# Altium footprint library tps54332_12v_to_7v.PcbLib: 8 footprints
Each footprint in its own frame and in the unit in brackets; x right, y up, seen from the top. Pads: shape width x height; smd on the part's side, far side on the other; paste and mask are expansions set on the pad; w line width, h text height; cw(c..) or ccw(c..) is an arc to the next point about the centre after c.
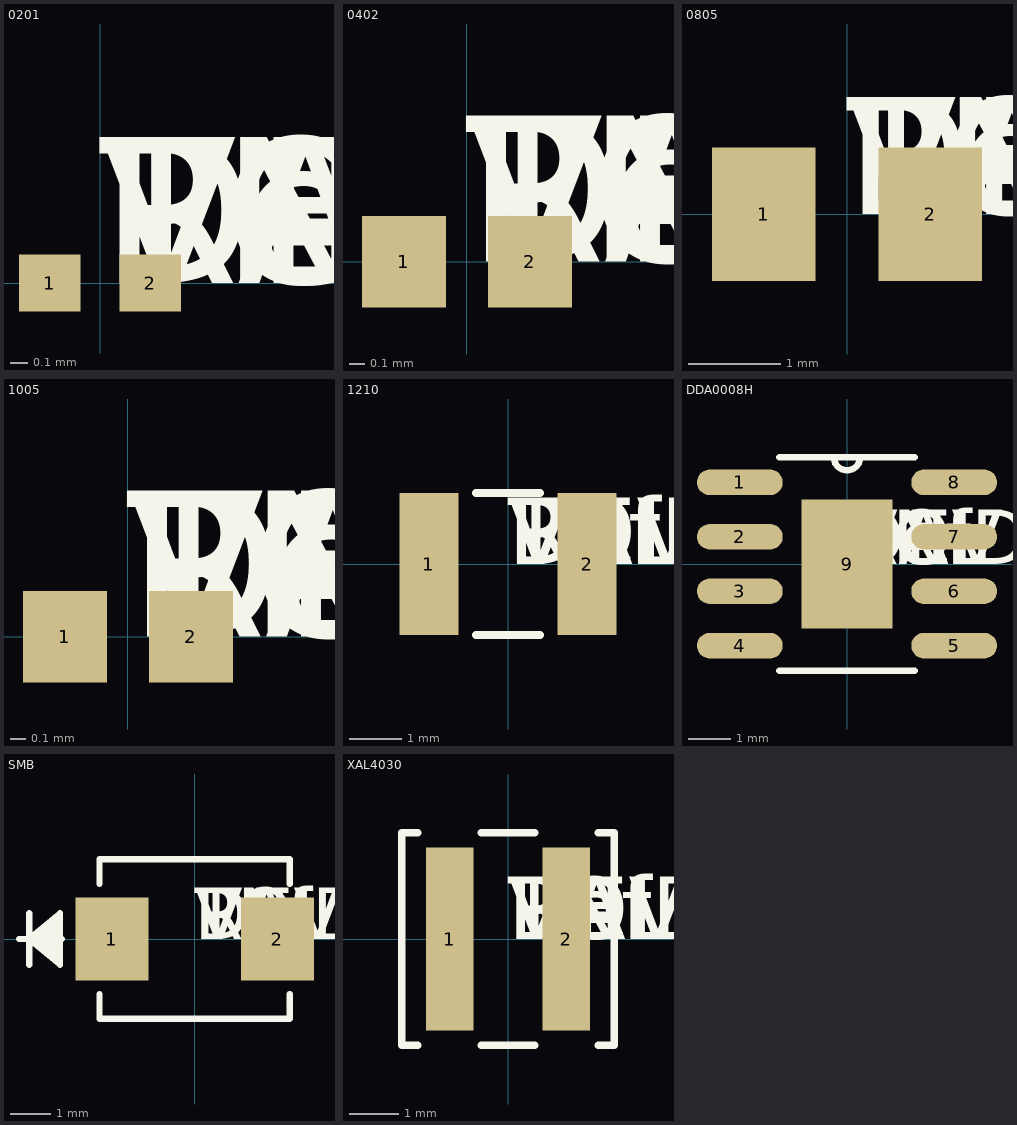
[diagram p0: the footprints below, top view; thin cyan lines are the x and y axes]

## 0201 [mil]
pads (2):
  rect 14x13 smd: 1(-11.5,0) 2(11.5,0)
Top Overlay:
  text "RefDes" at 0,0 h50
  text "DEV" at 0,0 h50
  text "PN" at 0,0 h50
  text "DEV" at 0,0 h50
  text "VAL" at 0,0 h50
  text "TOL" at 0,0 h50

## 0402 [mil]
pads (2):
  rect 22x24 smd: 1(-16.5,0) 2(16.5,0)
Top Overlay:
  text "RefDes" at 0,0 h50
  text "DEV" at 0,0 h50
  text "PN" at 0,0 h50
  text "DEV" at 0,0 h50
  text "VAL" at 0,0 h50
  text "TOL" at 0,0 h50

## 0805 [mil]
pads (2):
  rect 44x57 smd: 1(-35.5,0) 2(35.5,0)
Top Overlay:
  text "RefDes" at 0,0 h50
  text "DEV" at 0,0 h50
  text "PN" at 0,0 h50
  text "DEV" at 0,0 h50
  text "VAL" at 0,0 h50
  text "TOL" at 0,0 h50

## 1005 [mil]
pads (2):
  rect 22x24 smd: 1(-16.5,0) 2(16.5,0)
Top Overlay:
  text "RefDes" at 0,0 h50
  text "DEV" at 0,0 h50
  text "PN" at 0,0 h50
  text "DEV" at 0,0 h50
  text "VAL" at 0,0 h50
  text "TOL" at 0,0 h50

## 1210 [mil]
pads (2):
  rect 44x106 smd: 1(-59,0) 2(59,0)
Top Overlay:
  lines w6: -23.9,-53 23.9,-53 ; -23.9,53 23.9,53
  text "RefDes" at 0,0 h50
  text "DEV" at 0,0 h50
  text "PN" at 0,0 h50
  text "DEV" at 0,0 h50
  text "VAL" at 0,0 h50
  text "TOL" at 0,0 h50

## DDA0008H [mm]
pads (9):
  oval 2x0.6 smd paste-0.102 mask+0.051: 1(-2.5,1.905) 2(-2.5,0.635) 3(-2.5,-0.635) 4(-2.5,-1.905) 5(2.5,-1.905) 6(2.5,-0.635) 7(2.5,0.635) 8(2.5,1.905)
  rect 2.13x3 smd paste-0.102 mask+0.051: 9(0,0)
Top Overlay:
  lines w0.152: -1.577,-2.489 1.577,-2.489 ; -1.577,2.489 1.577,2.489 ; -0.305,2.489 ccw(c0,2.489) 0.305,2.489
  text "RefDes" at 0,0 h1.27
  text "DEV" at 0,0 h1.27
  text "PN" at 0,0 h1.27
  text "DEV" at 0,0 h1.27
  text "VAL" at 0,0 h1.27
  text "TOL" at 0,0 h1.27
Top Paste:
  region: 0.1,-0.1 0.1,-1.41 1.039,-1.41 1.039,-0.1
  region: -0.1,-1.41 -0.1,-0.1 -1.039,-0.1 -1.039,-1.41
  region: -0.1,0.1 -0.1,1.41 -1.039,1.41 -1.039,0.1
  region: 0.1,1.41 0.1,0.1 1.039,0.1 1.039,1.41

## SMB [mil]
pads (2):
  rect 71x81 smd: 1(-80.5,0) 2(80.5,0)
Top Overlay:
  lines w6: -170.75,0 -129.1,0 ; -160.75,-25 -160.75,25 ; -130.75,-20 -160.75,0 ; -130.75,-15 -160.75,0 ; -130.75,-10 -160.75,0 ; -130.75,-5 -160.75,0 ; -130.75,5 -160.75,0 ; -130.75,10 -160.75,0 ; -130.75,15 -160.75,0 ; -130.75,20 -160.75,0 ; -92.5,-53.6 -92.5,-77.5 92.5,-77.5 92.5,-53.6 ; -92.5,53.6 -92.5,77.5 92.5,77.5 92.5,53.6 ; -160.75,0 -130.75,25 -130.75,-25 -160.75,0
  text "RefDes" at 0,0 h50
  text "DEV" at 0,0 h50
  text "PN" at 0,0 h50
  text "DEV" at 0,0 h50
  text "VAL" at 0,0 h50
  text "TOL" at 0,0 h50

## XAL4030 [mil]
pads (2):
  rect 38x146 smd: 1(-46.5,0) 2(46.5,0)
Top Overlay:
  lines w6: -71.77,-84.5 -84.5,-84.5 -84.5,84.5 -71.77,84.5 ; -21.23,-84.5 21.23,-84.5 ; -21.23,84.5 21.23,84.5 ; 71.77,-84.5 84.5,-84.5 84.5,84.5 71.77,84.5
  text "RefDes" at 0,0 h50
  text "DEV" at 0,0 h50
  text "PN" at 0,0 h50
  text "DEV" at 0,0 h50
  text "VAL" at 0,0 h50
  text "TOL" at 0,0 h50